# Altium footprint library Connectors.PcbLib: 3 footprints
Each footprint in its own frame and in the unit in brackets; x right, y up, seen from the top. Pads: shape width x height; smd on the part's side, far side on the other; paste and mask are expansions set on the pad; w line width, h text height; cw(c..) or ccw(c..) is an arc to the next point about the centre after c.
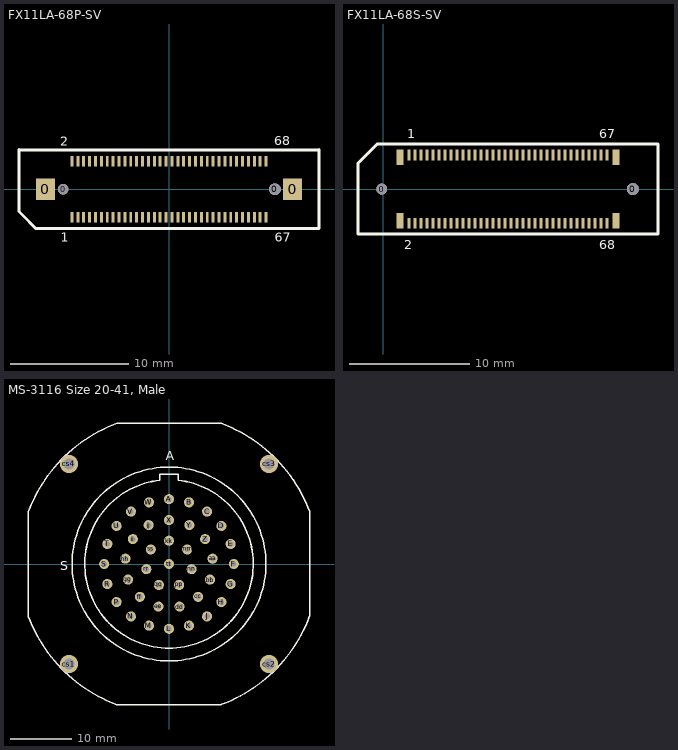
[diagram p0: the footprints below, top view; thin cyan lines are the x and y axes]

## FX11LA-68P-SV [mm] "HIROSE FX11L 2.0 mm stack height, w/ guidepost, header"
height 1.9
pads (72):
  rect 1.6x1.8 smd: 0(-10.5,0) 0(10.5,0)
  round 0.9 hole 0.9 unplated: 0(-9,0)
  round 1 hole 1 unplated: 0(9,0)
  rect 0.25x0.9 smd: 1(-8.25,-2.375) 2(-8.25,2.375) 3(-7.75,-2.375) 4(-7.75,2.375) 5(-7.25,-2.375) 6(-7.25,2.375) 7(-6.75,-2.375) 8(-6.75,2.375) 9(-6.25,-2.375) 10(-6.25,2.375) 11(-5.75,-2.375) 12(-5.75,2.375) 13(-5.25,-2.375) 14(-5.25,2.375) 15(-4.75,-2.375) 16(-4.75,2.375) 17(-4.25,-2.375) 18(-4.25,2.375) 19(-3.75,-2.375) 20(-3.75,2.375) 21(-3.25,-2.375) 22(-3.25,2.375) 23(-2.75,-2.375) 24(-2.75,2.375) 25(-2.25,-2.375) 26(-2.25,2.375) 27(-1.75,-2.375) 28(-1.75,2.375) 29(-1.25,-2.375) 30(-1.25,2.375) 31(-0.75,-2.375) 32(-0.75,2.375) 33(-0.25,-2.375) 34(-0.25,2.375) 35(0.25,-2.375) 36(0.25,2.375) 37(0.75,-2.375) 38(0.75,2.375) 39(1.25,-2.375) 40(1.25,2.375) 41(1.75,-2.375) 42(1.75,2.375) 43(2.25,-2.375) 44(2.25,2.375) 45(2.75,-2.375) 46(2.75,2.375) 47(3.25,-2.375) 48(3.25,2.375) 49(3.75,-2.375) 50(3.75,2.375) 51(4.25,-2.375) 52(4.25,2.375) 53(4.75,-2.375) 54(4.75,2.375) 55(5.25,-2.375) 56(5.25,2.375) 57(5.75,-2.375) 58(5.75,2.375) 59(6.25,-2.375) 60(6.25,2.375) 61(6.75,-2.375) 62(6.75,2.375) 63(7.25,-2.375) 64(7.25,2.375) 65(7.75,-2.375) 66(7.75,2.375) 67(8.25,-2.375) 68(8.25,2.375)
Top Overlay:
  lines w0.254: -12.75,3.35 12.75,3.35 ; -12.75,3.375 -12.75,0.25 -12.75,-1.9 -12.5,-2.15 -11.3,-3.35 12.75,-3.35 12.75,3.375
  text "1" at -9.2,-4.45 h0.76
  text "2" at -9.225,3.675 h0.76
  text "67" at 8.975,-4.45 h0.76
  text "68" at 8.95,3.725 h0.76

## FX11LA-68S-SV [mm] "HIROSE FX11L 2.0 mm stack height, w/ guidepost, receptacle"
height 1.65
pads (74):
  round 0.9 hole 0.9 unplated: 0(-0.127,0)
  rect 0.6x1.3 smd: 0(1.4,-2.65) 0(1.4,2.65) 0(19.4,-2.65) 0(19.4,2.65)
  round 1 hole 1 unplated: 0(20.8,0)
  rect 0.25x0.9 smd: 1(2.15,2.85) 2(2.15,-2.85) 3(2.65,2.85) 4(2.65,-2.85) 5(3.15,2.85) 6(3.15,-2.85) 7(3.65,2.85) 8(3.65,-2.85) 9(4.15,2.85) 10(4.15,-2.85) 11(4.65,2.85) 12(4.65,-2.85) 13(5.15,2.85) 14(5.15,-2.85) 15(5.65,2.85) 16(5.65,-2.85) 17(6.15,2.85) 18(6.15,-2.85) 19(6.65,2.85) 20(6.65,-2.85) 21(7.15,2.85) 22(7.15,-2.85) 23(7.65,2.85) 24(7.65,-2.85) 25(8.15,2.85) 26(8.15,-2.85) 27(8.65,2.85) 28(8.65,-2.85) 29(9.15,2.85) 30(9.15,-2.85) 31(9.65,2.85) 32(9.65,-2.85) 33(10.15,2.85) 34(10.15,-2.85) 35(10.65,2.85) 36(10.65,-2.85) 37(11.15,2.85) 38(11.15,-2.85) 39(11.65,2.85) 40(11.65,-2.85) 41(12.15,2.85) 42(12.15,-2.85) 43(12.65,2.85) 44(12.65,-2.85) 45(13.15,2.85) 46(13.15,-2.85) 47(13.65,2.85) 48(13.65,-2.85) 49(14.15,2.85) 50(14.15,-2.85) 51(14.65,2.85) 52(14.65,-2.85) 53(15.15,2.85) 54(15.15,-2.85) 55(15.65,2.85) 56(15.65,-2.85) 57(16.15,2.85) 58(16.15,-2.85) 59(16.65,2.85) 60(16.65,-2.85) 61(17.15,2.85) 62(17.15,-2.85) 63(17.65,2.85) 64(17.65,-2.85) 65(18.15,2.85) 66(18.15,-2.85) 67(18.65,2.85) 68(18.65,-2.85)
Top Overlay:
  lines w0.254: -2.1,2 -2.1,2.15 ; -2.1,2.15 -0.5,3.75 ; -2.1,2.15 -0.5,3.75 ; -2.1,2.15 -2.1,0 -2.1,-3.75 22.9,-3.75 22.9,3.75 -0.5,3.75
  text "1" at 2,4.25 h0.76
  text "2" at 1.75,-5 h0.76
  text "67" at 18,4.25 h0.76
  text "68" at 18,-5 h0.76
3D body: height 1.65, standoff -0.6, extent -2.108,-3.125 22.892,3.075

## MS-3116 Size 20-41, Male [mil] "Round Size 20, 41 pos, Male Pins"
pads (45):
  round 65 hole 35: A(0,418) aa(280.94,34.1) B(129.17,397.54) bb(264.6,-100.37) C(245.69,338.17) cc(187.65,-211.84) D(338.17,245.69) dd(67.72,-274.78) E(397.54,129.17) ee(-67.74,-274.77) F(418,0) ff(-187.67,-211.82) G(397.54,-129.17) gg(-264.61,-100.35) H(338.17,-245.69) hh(-280.94,34.12) ii(-232.9,160.76) J(245.69,-338.17) jj(-131.52,250.58) K(129.17,-397.54) kk(0,150) L(0,-418) M(-129.17,-397.54) mm(117.28,93.52) N(-245.69,-338.17) nn(146.24,-33.39) P(-338.17,-245.69) pp(65.08,-135.15) qq(-65.09,-135.14) R(-397.54,-129.17) rr(-146.24,-33.38) S(-418,0) ss(-117.27,93.52) T(-397.54,129.17) tt(0,0) U(-338.17,245.69) V(-245.69,338.17) W(-129.17,397.54) X(0,283) Y(131.53,250.58) Z(232.91,160.75)
  round 118.11 / inner round 60 / far side round 118.11 hole 70.87: cs1(-644.88,-644.88) cs2(644.88,-644.88) cs3(644.88,644.88) cs4(-644.88,644.88)
Top Overlay:
  circle w10: c0,0 r625.05
  lines w10: -59.06,540.35 -59.06,579.72 59.06,579.72 59.06,540.35 ; -59,539.9 ccw(c0,0) 59,539.9 ; 337.68,-905.98 ccw(c0,0) 905.98,-337.68 ; 337.8,-906.3 -337.8,-906.3 cw(c0,0) -906.3,-337.8 -906.3,336.81 cw(c0,0) -336.81,906.3 337.8,906.3 ; 337.84,906.41 cw(c0,0) 906.41,337.84 ; 906.3,-337.8 906.3,337.8
  text "A" at -20.94,670 h60
  text "S" at -700.94,-40 h60